# EAGLE library part HDLIS100DL (library st-microelectronics)
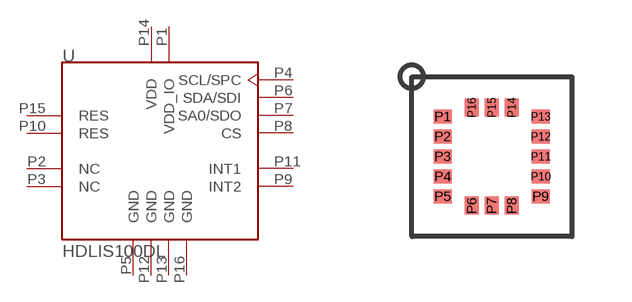
[diagram p50: symbol with the pads of TFLGA16L; footprint TFLGA16L]

Designator prefix U

## HDLIS100DL  [TFLGA16L]
P1  VDD_IO  pwr
P2  NC
P3  NC
P4  SCL/SPC
P5  GND  pwr
P6  SDA/SDI
P7  SA0/SDO
P8  CS
P9  INT2
P10  RES
P11  INT1
P12  GND  pwr
P13  GND  pwr
P14  VDD  pwr
P15  RES
P16  GND  pwr

## Footprint TFLGA16L (pad centres in mm)
smd 0.45 x 0.35: P1 -1.225,1; P2 -1.225,0.5; P3 -1.225,0; P4 -1.225,-0.5; P5 -1.225,-1; P9 1.225,-1; P10 1.225,-0.5; P11 1.225,0; P12 1.225,0.5; P13 1.225,1
smd 0.35 x 0.45: P6 -0.5,-1.225; P7 0,-1.225; P8 0.5,-1.225; P14 0.5,1.225; P15 0,1.225; P16 -0.5,1.225